# Altium footprint library Connector_Samtec_MicroMate.PcbLib: 76 footprints (part 1 of 5)
Each footprint in its own frame and in the unit in brackets; x right, y up, seen from the top. Pads: shape width x height; smd on the part's side, far side on the other; paste and mask are expansions set on the pad; w line width, h text height; cw(c..) or ccw(c..) is an arc to the next point about the centre after c.
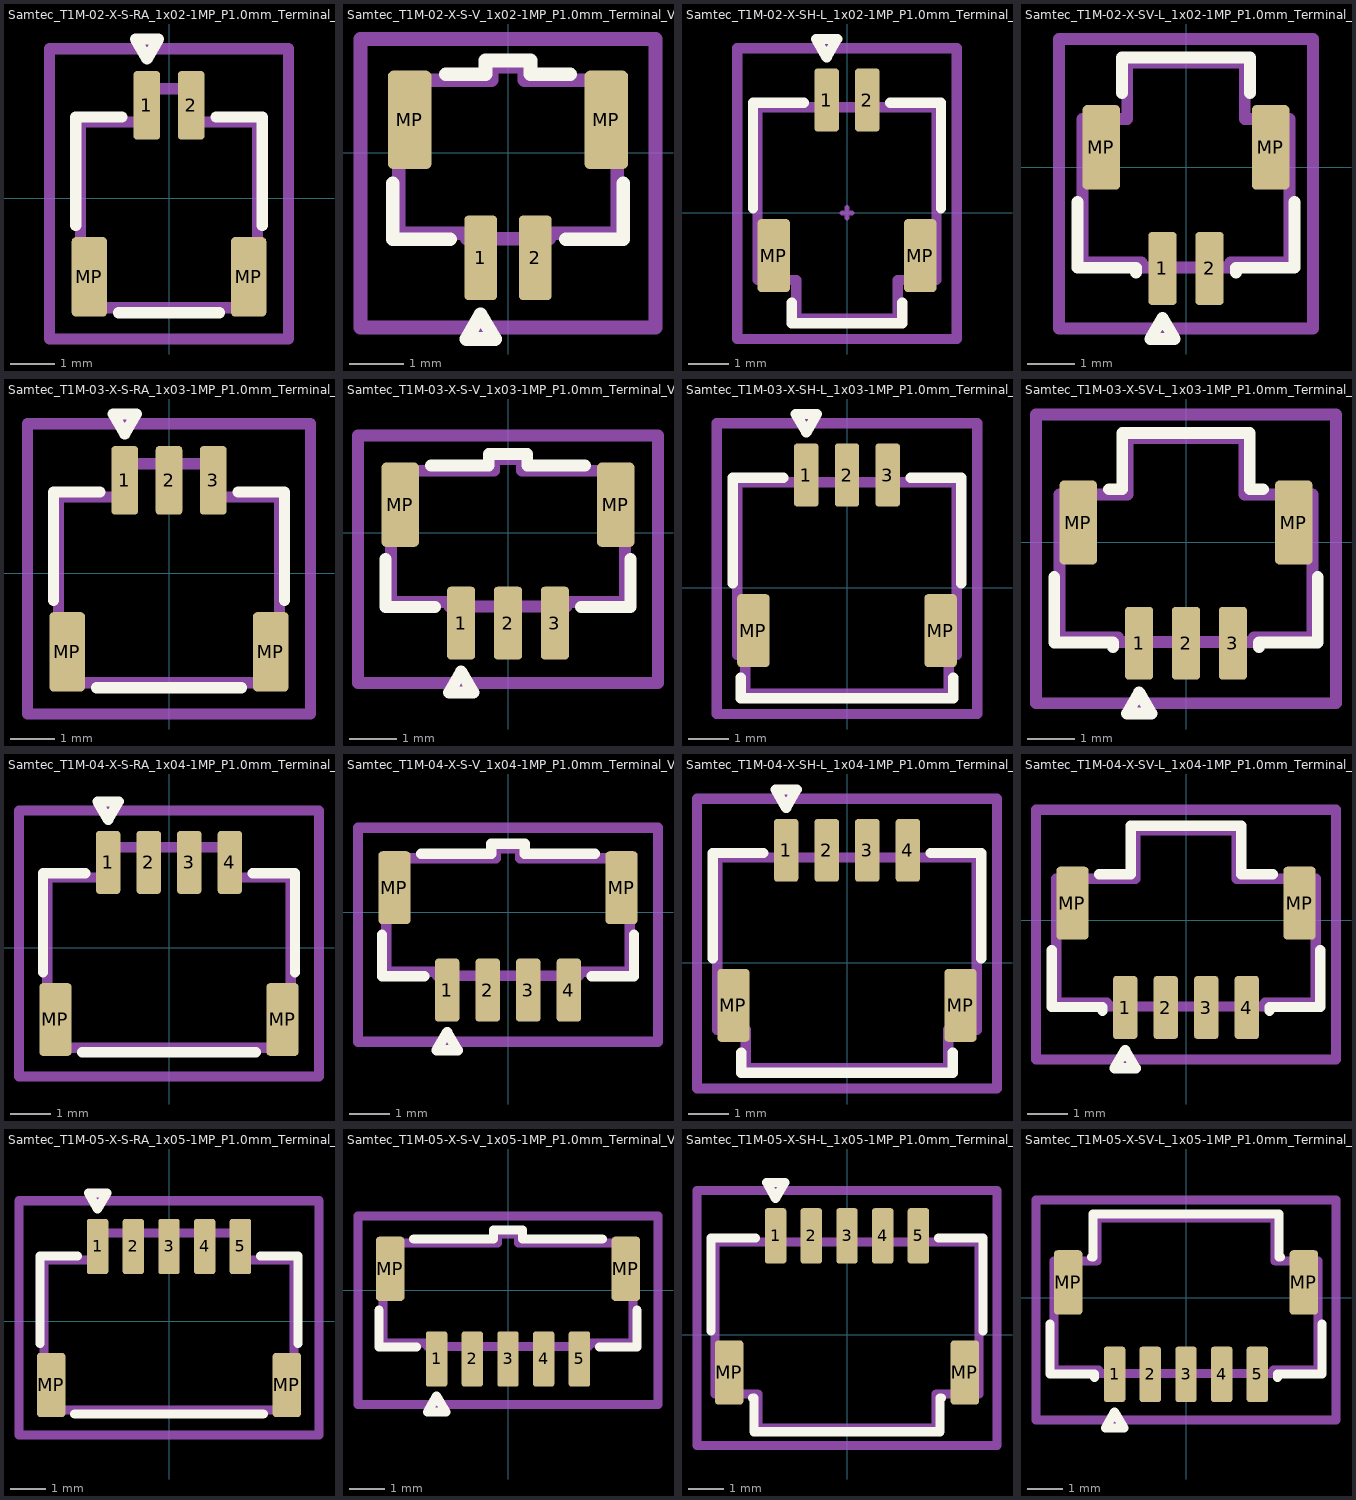
[diagram p0: the footprints below, top view; thin cyan lines are the x and y axes]

## Samtec_T1M-02-X-S-RA_1x02-1MP_P1.0mm_Terminal_Horizontal [mm]
pads (4):
  rrect25% 0.6x1.55 smd: 1(-0.5,2.1) 2(0.5,2.1)
  rrect25% 0.8x1.8 smd: MP(-1.8,-1.775) MP(1.8,-1.775)
F.SilkS:
  lines w0.254: -2.11,-0.615 -2.11,1.835 -1.06,1.835 ; -1.14,-2.585 1.14,-2.585 ; 1.06,1.835 2.11,1.835 2.11,-0.615 ; -0.76,3.6 -0.24,3.6 -0.5,3.15 -0.76,3.6
Top Assembly:
  lines w0.254: -2,-2.475 2,-2.475 2,1.725 0.6,1.725 0.6,2.475 -0.6,2.475 -0.6,1.725 -2,1.725 -2,-2.475
  text "'.Designator'" at -1.014,-0.213 h0.25
Top Courtyard:
  lines w0.254: -2.7,-3.18 2.7,-3.18 2.7,3.38 -2.7,3.38 -2.7,-3.18
Top Designator:
  text ".Designator" at -7.618,-0.298 h1.52

## Samtec_T1M-02-X-S-V_1x02-1MP_P1.0mm_Terminal_Vertical [mm]
pads (4):
  rrect25% 0.6x1.55 smd: 1(-0.5,-1.925) 2(0.5,-1.925)
  rrect25% 0.8x1.8 smd: MP(-1.8,0.6) MP(1.8,0.6)
F.SilkS:
  lines w0.254: -2.11,-0.56 -2.11,-1.585 -1.06,-1.585 ; -1.14,1.435 -0.41,1.435 -0.41,1.685 0.41,1.685 0.41,1.435 1.14,1.435 ; 1.06,-1.585 2.11,-1.585 2.11,-0.56 ; -0.76,-3.41 -0.24,-3.41 -0.5,-2.96 -0.76,-3.41
Top Assembly:
  lines w0.254: -2,-1.475 -0.75,-1.475 -0.75,-1.575 0.75,-1.575 0.75,-1.475 2,-1.475 2,1.325 0.3,1.325 0.3,1.575 -0.3,1.575 -0.3,1.325 -2,1.325 -2,-1.475
  text "'.Designator'" at -4.047,-0.84 h1
Top Courtyard:
  lines w0.254: -2.7,-3.2 2.7,-3.2 2.7,2.08 -2.7,2.08 -2.7,-3.2
Top Designator:
  text ".Designator" at -7.768,-1.173 h1.52

## Samtec_T1M-02-X-SH-L_1x02-1MP_P1.0mm_Terminal_Horizontal_Latch [mm]
pads (4):
  rrect25% 0.6x1.55 smd: 1(-0.5,2.775) 2(0.5,2.775)
  rrect25% 0.8x1.8 smd: MP(-1.8,-1.05) MP(1.8,-1.05)
F.SilkS:
  lines w0.254: -2.31,0.11 -2.31,2.71 -1.06,2.71 ; -1.36,-2.21 -1.36,-2.71 1.36,-2.71 1.36,-2.21 ; 1.06,2.71 2.31,2.71 2.31,0.11 ; -0.76,4.275 -0.24,4.275 -0.5,3.825 -0.76,4.275
Top Component Center:
  lines w0.127: -0.127,0 0.127,0 ; 0,-0.127 0,0.127
Top Assembly:
  lines w0.254: -2.2,-1.65 -1.25,-1.65 -1.25,-2.6 1.25,-2.6 1.25,-1.65 2.2,-1.65 2.2,2.6 -2.2,2.6 -2.2,-1.65
  text "'.Designator'" at -4.047,-0.84 h1
Top Courtyard:
  lines w0.254: -2.7,-3.1 2.7,-3.1 2.7,4.05 -2.7,4.05 -2.7,-3.1
Top Designator:
  text ".Designator" at -7.768,0.08 h1.52

## Samtec_T1M-02-X-SV-L_1x02-1MP_P1.0mm_Terminal_Vertical_Latch [mm]
pads (4):
  rrect25% 0.6x1.55 smd: 1(-0.5,-2.15) 2(0.5,-2.15)
  rrect25% 0.8x1.8 smd: MP(-1.8,0.425) MP(1.8,0.425)
F.SilkS:
  lines w0.254: -2.31,-0.735 -2.31,-2.135 -1.06,-2.135 -1.06,-2.235 ; -1.36,1.585 -1.36,2.335 1.36,2.335 1.36,1.585 ; 1.06,-2.235 1.06,-2.135 2.31,-2.135 2.31,-0.735 ; -0.76,-3.65 -0.24,-3.65 -0.5,-3.2 -0.76,-3.65
Top Assembly:
  lines w0.254: -2.2,-2.025 -0.95,-2.025 -0.95,-2.125 0.95,-2.125 0.95,-2.025 2.2,-2.025 2.2,1.025 1.25,1.025 1.25,2.225 -1.25,2.225 -1.25,1.025 -2.2,1.025 -2.2,-2.025
  text "'.Designator'" at -4.047,-0.84 h1
Top Courtyard:
  lines w0.254: -2.7,-3.43 2.7,-3.43 2.7,2.73 -2.7,2.73 -2.7,-3.43
Top Designator:
  text ".Designator" at -7.768,-0.968 h1.52

## Samtec_T1M-03-X-S-RA_1x03-1MP_P1.0mm_Terminal_Horizontal [mm]
pads (5):
  rrect25% 0.6x1.55 smd: 1(-1,2.1) 2(0,2.1) 3(1,2.1)
  rrect25% 0.8x1.8 smd: MP(-2.3,-1.775) MP(2.3,-1.775)
F.SilkS:
  lines w0.254: -2.61,-0.615 -2.61,1.835 -1.56,1.835 ; -1.64,-2.585 1.64,-2.585 ; 1.56,1.835 2.61,1.835 2.61,-0.615 ; -1.26,3.6 -0.74,3.6 -1,3.15 -1.26,3.6
Top Assembly:
  lines w0.254: -2.5,-2.475 2.5,-2.475 2.5,1.725 1.1,1.725 1.1,2.475 -1.1,2.475 -1.1,1.725 -2.5,1.725 -2.5,-2.475
  text "'.Designator'" at -2.028,-0.425 h0.5
Top Courtyard:
  lines w0.254: -3.2,-3.18 3.2,-3.18 3.2,3.38 -3.2,3.38 -3.2,-3.18
Top Designator:
  text ".Designator" at -7.618,-0.298 h1.52

## Samtec_T1M-03-X-S-V_1x03-1MP_P1.0mm_Terminal_Vertical [mm]
pads (5):
  rrect25% 0.6x1.55 smd: 1(-1,-1.925) 2(0,-1.925) 3(1,-1.925)
  rrect25% 0.8x1.8 smd: MP(-2.3,0.6) MP(2.3,0.6)
F.SilkS:
  lines w0.254: -2.61,-0.56 -2.61,-1.585 -1.56,-1.585 ; -1.64,1.435 -0.41,1.435 -0.41,1.685 0.41,1.685 0.41,1.435 1.64,1.435 ; 1.56,-1.585 2.61,-1.585 2.61,-0.56 ; -1.26,-3.41 -0.74,-3.41 -1,-2.96 -1.26,-3.41
Top Assembly:
  lines w0.254: -2.5,-1.475 -1.25,-1.475 -1.25,-1.575 1.25,-1.575 1.25,-1.475 2.5,-1.475 2.5,1.325 0.3,1.325 0.3,1.575 -0.3,1.575 -0.3,1.325 -2.5,1.325 -2.5,-1.475
  text "'.Designator'" at -4.047,-0.84 h1
Top Courtyard:
  lines w0.254: -3.2,-3.2 3.2,-3.2 3.2,2.08 -3.2,2.08 -3.2,-3.2
Top Designator:
  text ".Designator" at -7.768,-1.173 h1.52

## Samtec_T1M-03-X-SH-L_1x03-1MP_P1.0mm_Terminal_Horizontal_Latch [mm]
pads (5):
  rrect25% 0.6x1.55 smd: 1(-1,2.775) 2(0,2.775) 3(1,2.775)
  rrect25% 0.8x1.8 smd: MP(-2.3,-1.05) MP(2.3,-1.05)
F.SilkS:
  lines w0.254: -2.81,0.11 -2.81,2.71 -1.56,2.71 ; -2.61,-2.21 -2.61,-2.71 2.61,-2.71 2.61,-2.21 ; 1.56,2.71 2.81,2.71 2.81,0.11 ; -1.26,4.275 -0.74,4.275 -1,3.825 -1.26,4.275
Top Assembly:
  lines w0.254: -2.7,-1.65 -2.5,-1.65 -2.5,-2.6 2.5,-2.6 2.5,-1.65 2.7,-1.65 2.7,2.6 -2.7,2.6 -2.7,-1.65
  text "'.Designator'" at -4.047,-0.84 h1
Top Courtyard:
  lines w0.254: -3.2,-3.1 3.2,-3.1 3.2,4.05 -3.2,4.05 -3.2,-3.1
Top Designator:
  text ".Designator" at -7.768,0.08 h1.52

## Samtec_T1M-03-X-SV-L_1x03-1MP_P1.0mm_Terminal_Vertical_Latch [mm]
pads (5):
  rrect25% 0.6x1.55 smd: 1(-1,-2.15) 2(0,-2.15) 3(1,-2.15)
  rrect25% 0.8x1.8 smd: MP(-2.3,0.425) MP(2.3,0.425)
F.SilkS:
  lines w0.254: -2.81,-0.735 -2.81,-2.135 -1.56,-2.135 -1.56,-2.235 ; -1.64,1.135 -1.36,1.135 -1.36,2.335 1.36,2.335 1.36,1.135 1.64,1.135 ; 1.56,-2.235 1.56,-2.135 2.81,-2.135 2.81,-0.735 ; -1.26,-3.65 -0.74,-3.65 -1,-3.2 -1.26,-3.65
Top Assembly:
  lines w0.254: -2.7,-2.025 -1.45,-2.025 -1.45,-2.125 1.45,-2.125 1.45,-2.025 2.7,-2.025 2.7,1.025 1.25,1.025 1.25,2.225 -1.25,2.225 -1.25,1.025 -2.7,1.025 -2.7,-2.025
  text "'.Designator'" at -4.047,-0.84 h1
Top Courtyard:
  lines w0.254: -3.2,-3.43 3.2,-3.43 3.2,2.73 -3.2,2.73 -3.2,-3.43
Top Designator:
  text ".Designator" at -7.768,-0.968 h1.52

## Samtec_T1M-04-X-S-RA_1x04-1MP_P1.0mm_Terminal_Horizontal [mm]
pads (6):
  rrect25% 0.6x1.55 smd: 1(-1.5,2.1) 2(-0.5,2.1) 3(0.5,2.1) 4(1.5,2.1)
  rrect25% 0.8x1.8 smd: MP(-2.8,-1.775) MP(2.8,-1.775)
F.SilkS:
  lines w0.254: -3.11,-0.615 -3.11,1.835 -2.06,1.835 ; -2.14,-2.585 2.14,-2.585 ; 2.06,1.835 3.11,1.835 3.11,-0.615 ; -1.76,3.6 -1.24,3.6 -1.5,3.15 -1.76,3.6
Top Assembly:
  lines w0.254: -3,-2.475 3,-2.475 3,1.725 1.6,1.725 1.6,2.475 -1.6,2.475 -1.6,1.725 -3,1.725 -3,-2.475
  text "'.Designator'" at -3.033,-0.628 h0.75
Top Courtyard:
  lines w0.254: -3.7,-3.18 3.7,-3.18 3.7,3.38 -3.7,3.38 -3.7,-3.18
Top Designator:
  text ".Designator" at -7.618,-0.298 h1.52

## Samtec_T1M-04-X-S-V_1x04-1MP_P1.0mm_Terminal_Vertical [mm]
pads (6):
  rrect25% 0.6x1.55 smd: 1(-1.5,-1.925) 2(-0.5,-1.925) 3(0.5,-1.925) 4(1.5,-1.925)
  rrect25% 0.8x1.8 smd: MP(-2.8,0.6) MP(2.8,0.6)
F.SilkS:
  lines w0.254: -3.11,-0.56 -3.11,-1.585 -2.06,-1.585 ; -2.14,1.435 -0.41,1.435 -0.41,1.685 0.41,1.685 0.41,1.435 2.14,1.435 ; 2.06,-1.585 3.11,-1.585 3.11,-0.56 ; -1.76,-3.41 -1.24,-3.41 -1.5,-2.96 -1.76,-3.41
Top Assembly:
  lines w0.254: -3,-1.475 -1.75,-1.475 -1.75,-1.575 1.75,-1.575 1.75,-1.475 3,-1.475 3,1.325 0.3,1.325 0.3,1.575 -0.3,1.575 -0.3,1.325 -3,1.325 -3,-1.475
  text "'.Designator'" at -4.047,-0.84 h1
Top Courtyard:
  lines w0.254: -3.7,-3.2 3.7,-3.2 3.7,2.08 -3.7,2.08 -3.7,-3.2
Top Designator:
  text ".Designator" at -7.768,-1.173 h1.52

## Samtec_T1M-04-X-SH-L_1x04-1MP_P1.0mm_Terminal_Horizontal_Latch [mm]
pads (6):
  rrect25% 0.6x1.55 smd: 1(-1.5,2.775) 2(-0.5,2.775) 3(0.5,2.775) 4(1.5,2.775)
  rrect25% 0.8x1.8 smd: MP(-2.8,-1.05) MP(2.8,-1.05)
F.SilkS:
  lines w0.254: -3.31,0.11 -3.31,2.71 -2.06,2.71 ; -2.61,-2.21 -2.61,-2.71 2.61,-2.71 2.61,-2.21 ; 2.06,2.71 3.31,2.71 3.31,0.11 ; -1.76,4.275 -1.24,4.275 -1.5,3.825 -1.76,4.275
Top Assembly:
  lines w0.254: -3.2,-1.65 -2.5,-1.65 -2.5,-2.6 2.5,-2.6 2.5,-1.65 3.2,-1.65 3.2,2.6 -3.2,2.6 -3.2,-1.65
  text "'.Designator'" at -4.047,-0.84 h1
Top Courtyard:
  lines w0.254: -3.7,-3.1 3.7,-3.1 3.7,4.05 -3.7,4.05 -3.7,-3.1
Top Designator:
  text ".Designator" at -7.768,0.08 h1.52

## Samtec_T1M-04-X-SV-L_1x04-1MP_P1.0mm_Terminal_Vertical_Latch [mm]
pads (6):
  rrect25% 0.6x1.55 smd: 1(-1.5,-2.15) 2(-0.5,-2.15) 3(0.5,-2.15) 4(1.5,-2.15)
  rrect25% 0.8x1.8 smd: MP(-2.8,0.425) MP(2.8,0.425)
F.SilkS:
  lines w0.254: -3.31,-0.735 -3.31,-2.135 -2.06,-2.135 -2.06,-2.235 ; -2.14,1.135 -1.36,1.135 -1.36,2.335 1.36,2.335 1.36,1.135 2.14,1.135 ; 2.06,-2.235 2.06,-2.135 3.31,-2.135 3.31,-0.735 ; -1.76,-3.65 -1.24,-3.65 -1.5,-3.2 -1.76,-3.65
Top Assembly:
  lines w0.254: -3.2,-2.025 -1.95,-2.025 -1.95,-2.125 1.95,-2.125 1.95,-2.025 3.2,-2.025 3.2,1.025 1.25,1.025 1.25,2.225 -1.25,2.225 -1.25,1.025 -3.2,1.025 -3.2,-2.025
  text "'.Designator'" at -4.047,-0.84 h1
Top Courtyard:
  lines w0.254: -3.7,-3.43 3.7,-3.43 3.7,2.73 -3.7,2.73 -3.7,-3.43
Top Designator:
  text ".Designator" at -7.768,-0.968 h1.52

## Samtec_T1M-05-X-S-RA_1x05-1MP_P1.0mm_Terminal_Horizontal [mm]
pads (7):
  rrect25% 0.6x1.55 smd: 1(-2,2.1) 2(-1,2.1) 3(0,2.1) 4(1,2.1) 5(2,2.1)
  rrect25% 0.8x1.8 smd: MP(-3.3,-1.775) MP(3.3,-1.775)
F.SilkS:
  lines w0.254: -3.61,-0.615 -3.61,1.835 -2.56,1.835 ; -2.64,-2.585 2.64,-2.585 ; 2.56,1.835 3.61,1.835 3.61,-0.615 ; -2.26,3.6 -1.74,3.6 -2,3.15 -2.26,3.6
Top Assembly:
  lines w0.254: -3.5,-2.475 3.5,-2.475 3.5,1.725 2.1,1.725 2.1,2.475 -2.1,2.475 -2.1,1.725 -3.5,1.725 -3.5,-2.475
  text "'.Designator'" at -4.047,-0.84 h1
Top Courtyard:
  lines w0.254: -4.2,-3.18 4.2,-3.18 4.2,3.38 -4.2,3.38 -4.2,-3.18
Top Designator:
  text ".Designator" at -7.618,-0.298 h1.52

## Samtec_T1M-05-X-S-V_1x05-1MP_P1.0mm_Terminal_Vertical [mm]
pads (7):
  rrect25% 0.6x1.55 smd: 1(-2,-1.925) 2(-1,-1.925) 3(0,-1.925) 4(1,-1.925) 5(2,-1.925)
  rrect25% 0.8x1.8 smd: MP(-3.3,0.6) MP(3.3,0.6)
F.SilkS:
  lines w0.254: -3.61,-0.56 -3.61,-1.585 -2.56,-1.585 ; -2.64,1.435 -0.41,1.435 -0.41,1.685 0.41,1.685 0.41,1.435 2.64,1.435 ; 2.56,-1.585 3.61,-1.585 3.61,-0.56 ; -2.26,-3.41 -1.74,-3.41 -2,-2.96 -2.26,-3.41
Top Assembly:
  lines w0.254: -3.5,-1.475 -2.25,-1.475 -2.25,-1.575 2.25,-1.575 2.25,-1.475 3.5,-1.475 3.5,1.325 0.3,1.325 0.3,1.575 -0.3,1.575 -0.3,1.325 -3.5,1.325 -3.5,-1.475
  text "'.Designator'" at -4.047,-0.84 h1
Top Courtyard:
  lines w0.254: -4.2,-3.2 4.2,-3.2 4.2,2.08 -4.2,2.08 -4.2,-3.2
Top Designator:
  text ".Designator" at -7.618,-1.173 h1.52

## Samtec_T1M-05-X-SH-L_1x05-1MP_P1.0mm_Terminal_Horizontal_Latch [mm]
pads (7):
  rrect25% 0.6x1.55 smd: 1(-2,2.775) 2(-1,2.775) 3(0,2.775) 4(1,2.775) 5(2,2.775)
  rrect25% 0.8x1.8 smd: MP(-3.3,-1.05) MP(3.3,-1.05)
F.SilkS:
  lines w0.254: -3.81,0.11 -3.81,2.71 -2.56,2.71 ; -2.64,-1.76 -2.61,-1.76 -2.61,-2.71 2.61,-2.71 2.61,-1.76 2.64,-1.76 ; 2.56,2.71 3.81,2.71 3.81,0.11 ; -2.26,4.275 -1.74,4.275 -2,3.825 -2.26,4.275
Top Assembly:
  lines w0.254: -3.7,-1.65 -2.5,-1.65 -2.5,-2.6 2.5,-2.6 2.5,-1.65 3.7,-1.65 3.7,2.6 -3.7,2.6 -3.7,-1.65
  text "'.Designator'" at -4.047,-0.84 h1
Top Courtyard:
  lines w0.254: -4.2,-3.1 4.2,-3.1 4.2,4.05 -4.2,4.05 -4.2,-3.1
Top Designator:
  text ".Designator" at -7.618,0.08 h1.52

## Samtec_T1M-05-X-SV-L_1x05-1MP_P1.0mm_Terminal_Vertical_Latch [mm]
pads (7):
  rrect25% 0.6x1.55 smd: 1(-2,-2.15) 2(-1,-2.15) 3(0,-2.15) 4(1,-2.15) 5(2,-2.15)
  rrect25% 0.8x1.8 smd: MP(-3.3,0.425) MP(3.3,0.425)
F.SilkS:
  lines w0.254: -3.81,-0.735 -3.81,-2.135 -2.56,-2.135 -2.56,-2.235 ; -2.64,1.135 -2.61,1.135 -2.61,2.335 2.61,2.335 2.61,1.135 2.64,1.135 ; 2.56,-2.235 2.56,-2.135 3.81,-2.135 3.81,-0.735 ; -2.26,-3.65 -1.74,-3.65 -2,-3.2 -2.26,-3.65
Top Assembly:
  lines w0.254: -3.7,-2.025 -2.45,-2.025 -2.45,-2.125 2.45,-2.125 2.45,-2.025 3.7,-2.025 3.7,1.025 2.5,1.025 2.5,2.225 -2.5,2.225 -2.5,1.025 -3.7,1.025 -3.7,-2.025
  text "'.Designator'" at -4.047,-0.84 h1
Top Courtyard:
  lines w0.254: -4.2,-3.43 4.2,-3.43 4.2,2.73 -4.2,2.73 -4.2,-3.43
Top Designator:
  text ".Designator" at -7.618,-0.968 h1.52